# Altium schematic symbol library M20-9990646.SchLib: 1 symbol
Pins are listed as number, name and electrical type; pins without a type are passive.

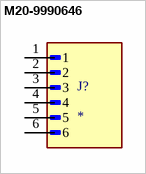
[diagram p0: symbol M20-9990646]

## M20-9990646
designator J?
2.54mm (0.1) Pitch SIL Vertical Throughboard Pin Header, 6.1mm mating pin height, tin, 6 contacts; MF: Harwin; MP: M20-9990646; SnapEDA_Link: https://www.snapeda.com/parts/M20-9990646/Harwin/view-part/?ref=snap; Package: None; Value: *; Check_prices: https://www.snapeda.com/parts/M20-9990646/Harwin/view-part/?ref=eda
footprint HARWIN_M20-9990646
pins: 1, 2, 3, 4, 5, 6